# Altium integrated library ON Semi MOSFETs.IntLib: 1097 symbols (part 25 of 26)
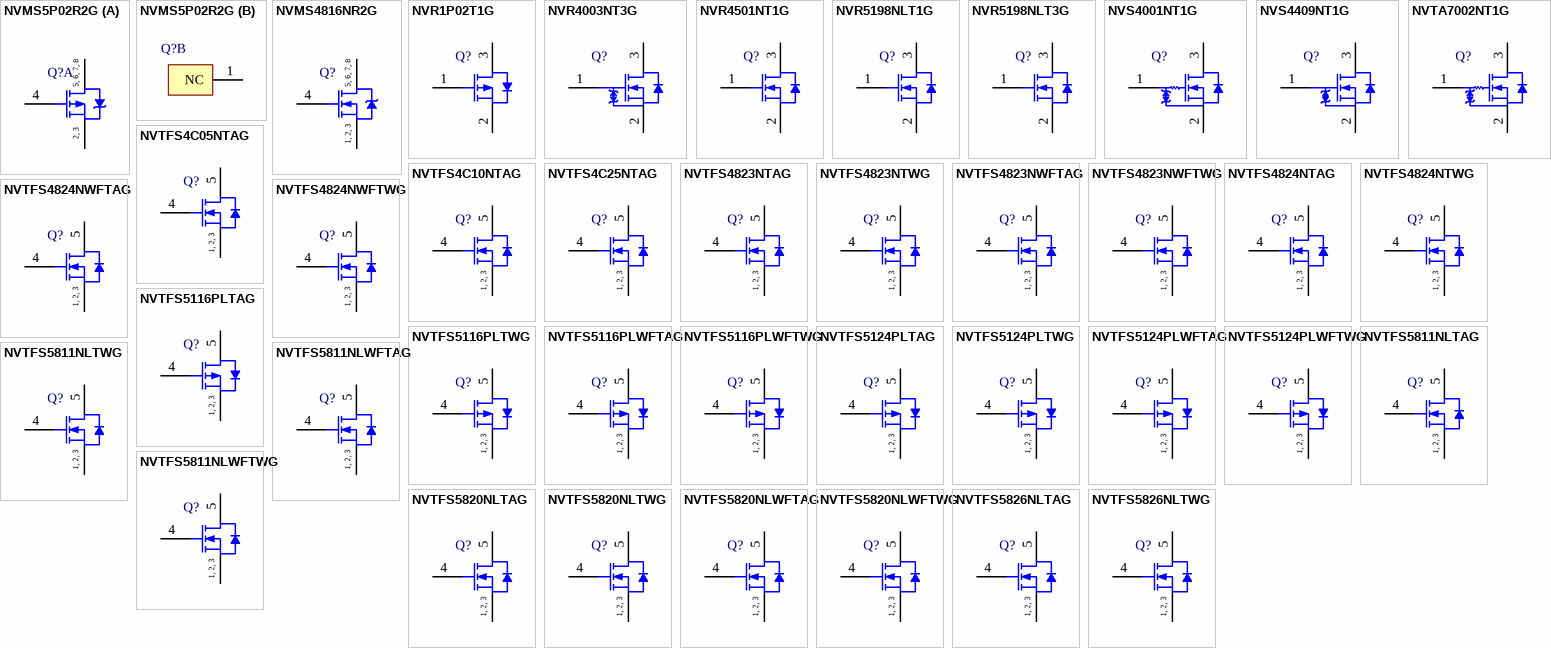
[diagram p55: symbols NVMS5P02R2G to NVTFS5826NLTWG]

## NVTFS5811NLTAG
designator Q?
Power MOSFET, 40 V, 40 A, 6.7 mOhm, Single N-Channel, 8-Pin WDFN, Pb-Free, Tape and Reel; Manufacturer: On Semiconductor; PartNumber: NVTFS5811NLTAG; Channel Polarity: N Channel; Ciss Typ (pF): 1570; Coss Typ (pF): 215; Crss Typ (pF): 157; ID Max (A): 40; Qrr Typ (nC): 17; VGS Max (V): 20; VGS(th) Max (V): 2.2; DatasheetVersion: Rev. 2; PackageVersion: Rev. D, 04/2012; PackageReference: WDFN-8-511AB; PackageDescription: 8-Pin Small Outline No-Lead, Body 3.05 x 3.05 mm, Pitch 0.65 mm; Supplier 1: Digi-Key; Supplier Part Number 1: NVTFS5811NLTAG-ND; Supplier 2: Newark; Supplier Part Number 2: 65T1526; Supplier 3: Mouser; Supplier Part Number 3: 863-NVTFS5811NLTAG; Configuration: Single; Package Type: u8FL / WDFN-8; Packing: Tape and Reel; RoHS: Pb-Free; V(BR)DSS Min (V): 40; Mounting Technology: Surface Mount; ComponentLink1Description: Manufacturer URL; ComponentLink1URL: http://www.onsemi.com/; ComponentLink2Description: Datasheet; ComponentLink2URL: http://www.onsemi.com/pub_link/Collateral/NVTFS5811NL-D.PDF; ComponentLink3Description: Package Specification; ComponentLink3URL: http://www.onsemi.com/pub_link/Collateral/511AB.PDF
footprint ONSC-WDFN-8-511AB_V (DFN, 8-Leads, Body 3.05x3.05mm, Pitch 0.65mm)
pins: 1 S, 2 S, 3 S, 4 G, 5 D
text: 1, 2, 3

## NVTFS5811NLTWG
designator Q?
Power MOSFET, 40 V, 40 A, 6.7 mOhm, Single N-Channel, 8-Pin WDFN, Pb-Free, Tape and Reel; Manufacturer: On Semiconductor; PartNumber: NVTFS5811NLTWG; Channel Polarity: N Channel; Ciss Typ (pF): 1570; Coss Typ (pF): 215; Crss Typ (pF): 157; ID Max (A): 40; Qrr Typ (nC): 17; VGS Max (V): 20; VGS(th) Max (V): 2.2; DatasheetVersion: Rev. 2; PackageVersion: Rev. D, 04/2012; PackageReference: WDFN-8-511AB; PackageDescription: 8-Pin Small Outline No-Lead, Body 3.05 x 3.05 mm, Pitch 0.65 mm; Supplier 1: Digi-Key; Supplier Part Number 1: NVTFS5811NLTWG-ND; Supplier 2: Mouser; Supplier Part Number 2: 863-NVTFS5811NLTWG; Configuration: Single; Package Type: u8FL / WDFN-8; Packing: Tape and Reel; RoHS: Pb-Free; V(BR)DSS Min (V): 40; Mounting Technology: Surface Mount; ComponentLink1Description: Manufacturer URL; ComponentLink1URL: http://www.onsemi.com/; ComponentLink2Description: Datasheet; ComponentLink2URL: http://www.onsemi.com/pub_link/Collateral/NVTFS5811NL-D.PDF; ComponentLink3Description: Package Specification; ComponentLink3URL: http://www.onsemi.com/pub_link/Collateral/511AB.PDF
footprint ONSC-WDFN-8-511AB_V (DFN, 8-Leads, Body 3.05x3.05mm, Pitch 0.65mm)
pins: 1 S, 2 S, 3 S, 4 G, 5 D
text: 1, 2, 3

## NVTFS5811NLWFTAG
designator Q?
Power MOSFET, 40 V, 40 A, 6.7 mOhm, Single N-Channel, 8-Pin WDFN, Pb-Free, Tape and Reel; Manufacturer: On Semiconductor; PartNumber: NVTFS5811NLWFTAG; Channel Polarity: N Channel; Ciss Typ (pF): 1570; Coss Typ (pF): 215; Crss Typ (pF): 157; ID Max (A): 40; Qrr Typ (nC): 17; VGS Max (V): 20; VGS(th) Max (V): 2.2; DatasheetVersion: Rev. 2; PackageVersion: Rev. D, 04/2012; PackageReference: WDFN-8-511AB; PackageDescription: 8-Pin Small Outline No-Lead, Body 3.05 x 3.05 mm, Pitch 0.65 mm; Supplier 1: Newark; Supplier Part Number 1: 11X3743; Supplier 2: Mouser; Supplier Part Number 2: 863-NVTFS5811NLWFTAG; Configuration: Single; Package Type: u8FL / WDFN-8; Packing: Tape and Reel; RoHS: Pb-Free; V(BR)DSS Min (V): 40; Mounting Technology: Surface Mount; ComponentLink1Description: Manufacturer URL; ComponentLink1URL: http://www.onsemi.com/; ComponentLink2Description: Datasheet; ComponentLink2URL: http://www.onsemi.com/pub_link/Collateral/NVTFS5811NL-D.PDF; ComponentLink3Description: Package Specification; ComponentLink3URL: http://www.onsemi.com/pub_link/Collateral/511AB.PDF
footprint ONSC-WDFN-8-511AB_V (DFN, 8-Leads, Body 3.05x3.05mm, Pitch 0.65mm)
pins: 1 S, 2 S, 3 S, 4 G, 5 D
text: 1, 2, 3

## NVTFS5811NLWFTWG
designator Q?
Power MOSFET, 40 V, 40 A, 6.7 mOhm, Single N-Channel, 8-Pin WDFN, Pb-Free, Tape and Reel; Manufacturer: On Semiconductor; PartNumber: NVTFS5811NLWFTWG; Channel Polarity: N Channel; Ciss Typ (pF): 1570; Coss Typ (pF): 215; Crss Typ (pF): 157; ID Max (A): 40; Qrr Typ (nC): 17; VGS Max (V): 20; VGS(th) Max (V): 2.2; DatasheetVersion: Rev. 2; PackageVersion: Rev. D, 04/2012; PackageReference: WDFN-8-511AB; PackageDescription: 8-Pin Small Outline No-Lead, Body 3.05 x 3.05 mm, Pitch 0.65 mm; Supplier 1: Newark; Supplier Part Number 1: 11X3744; Supplier 2: Mouser; Supplier Part Number 2: 863-NVTFS5811NLWFTWG; Configuration: Single; Package Type: u8FL / WDFN-8; Packing: Tape and Reel; RoHS: Pb-Free; V(BR)DSS Min (V): 40; Mounting Technology: Surface Mount; ComponentLink1Description: Manufacturer URL; ComponentLink1URL: http://www.onsemi.com/; ComponentLink2Description: Datasheet; ComponentLink2URL: http://www.onsemi.com/pub_link/Collateral/NVTFS5811NL-D.PDF; ComponentLink3Description: Package Specification; ComponentLink3URL: http://www.onsemi.com/pub_link/Collateral/511AB.PDF
footprint ONSC-WDFN-8-511AB_V (DFN, 8-Leads, Body 3.05x3.05mm, Pitch 0.65mm)
pins: 1 S, 2 S, 3 S, 4 G, 5 D
text: 1, 2, 3

## NVTFS5820NLTAG
designator Q?
Power MOSFET, 60 V, 11.5 mOhm, Single N-Channel, 8-Pin WDFN, Pb-Free, Tape and Reel; Manufacturer: On Semiconductor; PartNumber: NVTFS5820NLTAG; Channel Polarity: N Channel; Ciss Typ (pF): 1462; Coss Typ (pF): 150; Crss Typ (pF): 96; ID Max (A): 29; Qrr Typ (nC): 15; V(BR)DSS Min (V): 60; VGS Max (V): 20; VGS(th) Max (V): 2.3; DatasheetVersion: Rev. 4; PackageVersion: Rev. D, 04/2012; PackageReference: WDFN-8-511AB; PackageDescription: 8-Pin Small Outline No-Lead, Body 3.05 x 3.05 mm, Pitch 0.65 mm; Supplier 1: Digi-Key; Supplier Part Number 1: NVTFS5820NLTAG-ND; Supplier 2: Newark; Supplier Part Number 2: 65T1528; Supplier 3: Mouser; Supplier Part Number 3: 863-NVTFS5820NLTAG; Configuration: Single; Package Type: u8FL / WDFN-8; Packing: Tape and Reel; RoHS: Pb-Free; Mounting Technology: Surface Mount; ComponentLink1Description: Manufacturer URL; ComponentLink1URL: http://www.onsemi.com/; ComponentLink2Description: Datasheet; ComponentLink2URL: http://www.onsemi.com/pub_link/Collateral/NVTFS5820NL-D.PDF; ComponentLink3Description: Package Specification; ComponentLink3URL: http://www.onsemi.com/pub_link/Collateral/511AB.PDF
footprint ONSC-WDFN-8-511AB_V (DFN, 8-Leads, Body 3.05x3.05mm, Pitch 0.65mm)
pins: 1 S, 2 S, 3 S, 4 G, 5 D
text: 1, 2, 3

## NVTFS5820NLTWG
designator Q?
Power MOSFET, 60 V, 11.5 mOhm, Single N-Channel, 8-Pin WDFN, Pb-Free, Tape and Reel; Manufacturer: On Semiconductor; PartNumber: NVTFS5820NLTWG; Channel Polarity: N Channel; Ciss Typ (pF): 1462; Coss Typ (pF): 150; Crss Typ (pF): 96; ID Max (A): 29; Qrr Typ (nC): 15; V(BR)DSS Min (V): 60; VGS Max (V): 20; VGS(th) Max (V): 2.3; DatasheetVersion: Rev. 4; PackageVersion: Rev. D, 04/2012; PackageReference: WDFN-8-511AB; PackageDescription: 8-Pin Small Outline No-Lead, Body 3.05 x 3.05 mm, Pitch 0.65 mm; Supplier 1: Digi-Key; Supplier Part Number 1: NVTFS5820NLTWG-ND; Supplier 2: Mouser; Supplier Part Number 2: 863-NVTFS5820NLTWG; Configuration: Single; Package Type: u8FL / WDFN-8; Packing: Tape and Reel; RoHS: Pb-Free; Mounting Technology: Surface Mount; ComponentLink1Description: Manufacturer URL; ComponentLink1URL: http://www.onsemi.com/; ComponentLink2Description: Datasheet; ComponentLink2URL: http://www.onsemi.com/pub_link/Collateral/NVTFS5820NL-D.PDF; ComponentLink3Description: Package Specification; ComponentLink3URL: http://www.onsemi.com/pub_link/Collateral/511AB.PDF
footprint ONSC-WDFN-8-511AB_V (DFN, 8-Leads, Body 3.05x3.05mm, Pitch 0.65mm)
pins: 1 S, 2 S, 3 S, 4 G, 5 D
text: 1, 2, 3

## NVTFS5820NLWFTAG
designator Q?
Power MOSFET, 60 V, 11.5 mOhm, Single N-Channel, 8-Pin WDFN, Pb-Free, Tape and Reel; Manufacturer: On Semiconductor; PartNumber: NVTFS5820NLWFTAG; Channel Polarity: N Channel; Ciss Typ (pF): 1462; Coss Typ (pF): 150; Crss Typ (pF): 96; ID Max (A): 29; Qrr Typ (nC): 15; V(BR)DSS Min (V): 60; VGS Max (V): 20; VGS(th) Max (V): 2.3; DatasheetVersion: Rev. 4; PackageVersion: Rev. D, 04/2012; PackageReference: WDFN-8-511AB; PackageDescription: 8-Pin Small Outline No-Lead, Body 3.05 x 3.05 mm, Pitch 0.65 mm; Supplier 1: Newark; Supplier Part Number 1: 11X3745; Supplier 2: Mouser; Supplier Part Number 2: 863-NVTFS5820NLWFTAG; Configuration: Single; Package Type: u8FL / WDFN-8; Packing: Tape and Reel; RoHS: Pb-Free; Mounting Technology: Surface Mount; ComponentLink1Description: Manufacturer URL; ComponentLink1URL: http://www.onsemi.com/; ComponentLink2Description: Datasheet; ComponentLink2URL: http://www.onsemi.com/pub_link/Collateral/NVTFS5820NL-D.PDF; ComponentLink3Description: Package Specification; ComponentLink3URL: http://www.onsemi.com/pub_link/Collateral/511AB.PDF
footprint ONSC-WDFN-8-511AB_V (DFN, 8-Leads, Body 3.05x3.05mm, Pitch 0.65mm)
pins: 1 S, 2 S, 3 S, 4 G, 5 D
text: 1, 2, 3

## NVTFS5820NLWFTWG
designator Q?
Power MOSFET, 60 V, 11.5 mOhm, Single N-Channel, 8-Pin WDFN, Pb-Free, Tape and Reel; Manufacturer: On Semiconductor; PartNumber: NVTFS5820NLWFTWG; Channel Polarity: N Channel; Ciss Typ (pF): 1462; Coss Typ (pF): 150; Crss Typ (pF): 96; ID Max (A): 29; Qrr Typ (nC): 15; V(BR)DSS Min (V): 60; VGS Max (V): 20; VGS(th) Max (V): 2.3; DatasheetVersion: Rev. 4; PackageVersion: Rev. D, 04/2012; PackageReference: WDFN-8-511AB; PackageDescription: 8-Pin Small Outline No-Lead, Body 3.05 x 3.05 mm, Pitch 0.65 mm; Supplier 1: Newark; Supplier Part Number 1: 11X3746; Supplier 2: Mouser; Supplier Part Number 2: 863-NVTFS5820NLWFTWG; Configuration: Single; Package Type: u8FL / WDFN-8; Packing: Tape and Reel; RoHS: Pb-Free; Mounting Technology: Surface Mount; ComponentLink1Description: Manufacturer URL; ComponentLink1URL: http://www.onsemi.com/; ComponentLink2Description: Datasheet; ComponentLink2URL: http://www.onsemi.com/pub_link/Collateral/NVTFS5820NL-D.PDF; ComponentLink3Description: Package Specification; ComponentLink3URL: http://www.onsemi.com/pub_link/Collateral/511AB.PDF
footprint ONSC-WDFN-8-511AB_V (DFN, 8-Leads, Body 3.05x3.05mm, Pitch 0.65mm)
pins: 1 S, 2 S, 3 S, 4 G, 5 D
text: 1, 2, 3

## NVTFS5826NLTAG
designator Q?
Power MOSFET, 60 V, 20 A, 24 mOhm, Single N-Channel, 8-Pin WDFN, Pb-Free, Tape and Reel; Manufacturer: On Semiconductor; PartNumber: NVTFS5826NLTAG; Channel Polarity: N Channel; Ciss Typ (pF): 850; Coss Typ (pF): 85; Crss Typ (pF): 50; ID Max (A): 20; Qrr Typ (nC): 17; V(BR)DSS Min (V): 60; VGS(th) Max (V): 2.5; DatasheetVersion: Rev. 2; PackageVersion: Rev. D, 04/2012; PackageReference: WDFN-8-511AB; PackageDescription: 8-Pin Small Outline No-Lead, Body 3.05 x 3.05 mm, Pitch 0.65 mm; Supplier 1: Digi-Key; Supplier Part Number 1: NVTFS5826NLTAG-ND; Supplier 2: Newark; Supplier Part Number 2: 65T1530; Supplier 3: Mouser; Supplier Part Number 3: 863-NVTFS5826NLTAG; Configuration: Single; Package Type: u8FL / WDFN-8; Packing: Tape and Reel; RoHS: Pb-Free; VGS Max (V): 20; Mounting Technology: Surface Mount; ComponentLink1Description: Manufacturer URL; ComponentLink1URL: http://www.onsemi.com/; ComponentLink2Description: Datasheet; ComponentLink2URL: http://www.onsemi.com/pub_link/Collateral/NVTFS5826NL-D.PDF; ComponentLink3Description: Package Specification; ComponentLink3URL: http://www.onsemi.com/pub_link/Collateral/511AB.PDF
footprint ONSC-WDFN-8-511AB_V (DFN, 8-Leads, Body 3.05x3.05mm, Pitch 0.65mm)
pins: 1 S, 2 S, 3 S, 4 G, 5 D
text: 1, 2, 3

## NVTFS5826NLTWG
designator Q?
Power MOSFET, 60 V, 20 A, 24 mOhm, Single N-Channel, 8-Pin WDFN, Pb-Free, Tape and Reel; Manufacturer: On Semiconductor; PartNumber: NVTFS5826NLTWG; Channel Polarity: N Channel; Ciss Typ (pF): 850; Coss Typ (pF): 85; Crss Typ (pF): 50; ID Max (A): 20; Qrr Typ (nC): 17; V(BR)DSS Min (V): 60; VGS(th) Max (V): 2.5; DatasheetVersion: Rev. 2; PackageVersion: Rev. D, 04/2012; PackageReference: WDFN-8-511AB; PackageDescription: 8-Pin Small Outline No-Lead, Body 3.05 x 3.05 mm, Pitch 0.65 mm; Supplier 1: Digi-Key; Supplier Part Number 1: NVTFS5826NLTWG-ND; Supplier 2: Mouser; Supplier Part Number 2: 863-NVTFS5826NLTWG; Configuration: Single; Package Type: u8FL / WDFN-8; Packing: Tape and Reel; RoHS: Pb-Free; VGS Max (V): 20; Mounting Technology: Surface Mount; ComponentLink1Description: Manufacturer URL; ComponentLink1URL: http://www.onsemi.com/; ComponentLink2Description: Datasheet; ComponentLink2URL: http://www.onsemi.com/pub_link/Collateral/NVTFS5826NL-D.PDF; ComponentLink3Description: Package Specification; ComponentLink3URL: http://www.onsemi.com/pub_link/Collateral/511AB.PDF
footprint ONSC-WDFN-8-511AB_V (DFN, 8-Leads, Body 3.05x3.05mm, Pitch 0.65mm)
pins: 1 S, 2 S, 3 S, 4 G, 5 D
text: 1, 2, 3

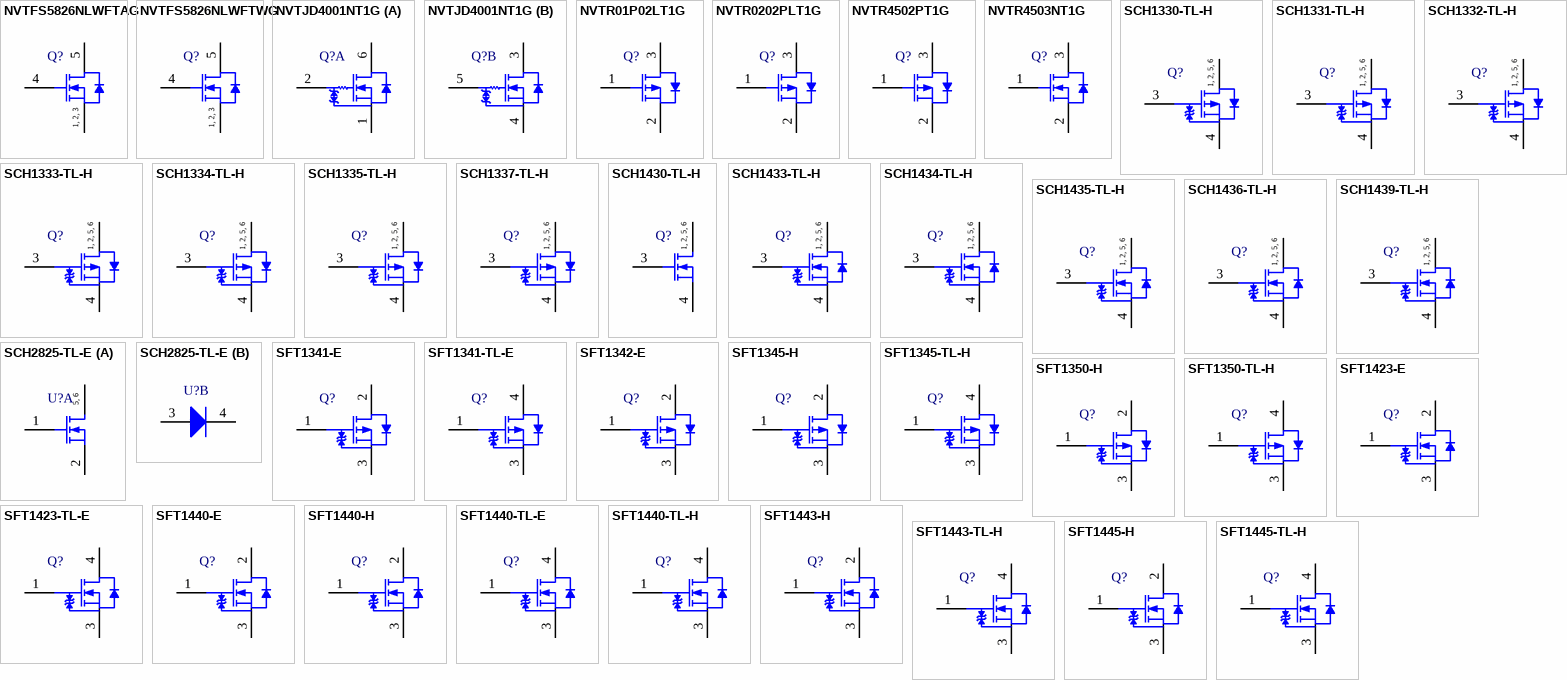
[diagram p30: symbols NVTFS5826NLWFTAG to SFT1445-TL-H]

## NVTFS5826NLWFTAG
designator Q?
Power MOSFET, 60 V, 20 A, 24 mOhm, Single N-Channel, 8-Pin WDFN, Pb-Free, Tape and Reel; Manufacturer: On Semiconductor; PartNumber: NVTFS5826NLWFTAG; Channel Polarity: N Channel; Ciss Typ (pF): 850; Coss Typ (pF): 85; Crss Typ (pF): 50; ID Max (A): 20; Qrr Typ (nC): 17; V(BR)DSS Min (V): 60; VGS(th) Max (V): 2.5; DatasheetVersion: Rev. 2; PackageVersion: Rev. D, 04/2012; PackageReference: WDFN-8-511AB; PackageDescription: 8-Pin Small Outline No-Lead, Body 3.05 x 3.05 mm, Pitch 0.65 mm; Supplier 1: Newark; Supplier Part Number 1: 11X3747; Supplier 2: Mouser; Supplier Part Number 2: 863-NVTFS5826NLWFTAG; Configuration: Single; Package Type: u8FL / WDFN-8; Packing: Tape and Reel; RoHS: Pb-Free; VGS Max (V): 20; Mounting Technology: Surface Mount; ComponentLink1Description: Manufacturer URL; ComponentLink1URL: http://www.onsemi.com/; ComponentLink2Description: Datasheet; ComponentLink2URL: http://www.onsemi.com/pub_link/Collateral/NVTFS5826NL-D.PDF; ComponentLink3Description: Package Specification; ComponentLink3URL: http://www.onsemi.com/pub_link/Collateral/511AB.PDF
footprint ONSC-WDFN-8-511AB_V (DFN, 8-Leads, Body 3.05x3.05mm, Pitch 0.65mm)
pins: 1 S, 2 S, 3 S, 4 G, 5 D
text: 1, 2, 3

## NVTFS5826NLWFTWG
designator Q?
Power MOSFET, 60 V, 20 A, 24 mOhm, Single N-Channel, 8-Pin WDFN, Pb-Free, Tape and Reel; Manufacturer: On Semiconductor; PartNumber: NVTFS5826NLWFTWG; Channel Polarity: N Channel; Ciss Typ (pF): 850; Coss Typ (pF): 85; Crss Typ (pF): 50; ID Max (A): 20; Qrr Typ (nC): 17; V(BR)DSS Min (V): 60; VGS(th) Max (V): 2.5; DatasheetVersion: Rev. 2; PackageVersion: Rev. D, 04/2012; PackageReference: WDFN-8-511AB; PackageDescription: 8-Pin Small Outline No-Lead, Body 3.05 x 3.05 mm, Pitch 0.65 mm; Supplier 1: Newark; Supplier Part Number 1: 11X3748; Supplier 2: Mouser; Supplier Part Number 2: 863-NVTFS5826NLWFTWG; Configuration: Single; Package Type: u8FL / WDFN-8; Packing: Tape and Reel; RoHS: Pb-Free; VGS Max (V): 20; Mounting Technology: Surface Mount; ComponentLink1Description: Manufacturer URL; ComponentLink1URL: http://www.onsemi.com/; ComponentLink2Description: Datasheet; ComponentLink2URL: http://www.onsemi.com/pub_link/Collateral/NVTFS5826NL-D.PDF; ComponentLink3Description: Package Specification; ComponentLink3URL: http://www.onsemi.com/pub_link/Collateral/511AB.PDF
footprint ONSC-WDFN-8-511AB_V (DFN, 8-Leads, Body 3.05x3.05mm, Pitch 0.65mm)
pins: 1 S, 2 S, 3 S, 4 G, 5 D
text: 1, 2, 3

## NVTJD4001NT1G
designator Q?
Small Signal MOSFET, 30 V, 250 mA, Dual N-Channel, 6-Pin SOT-363, Pb-Free, Tape and Reel; Manufacturer: On Semiconductor; PartNumber: NVTJD4001NT1G; Channel Polarity: N Channel; Ciss Typ (pF): 20; Coss Typ (pF): 19; Crss Typ (pF): 7.25; ID Max (A): 0.25; PD Max (W): 0.272; V(BR)DSS Min (V): 30; VGS(th) Max (V): 1.5; DatasheetVersion: Rev. 6; PackageVersion: Rev. W, 01/2006; PackageReference: SOT-363-6-419B-02_W; PackageDescription: 6-Pin Small Outline Transistor, Body 2 x 1.25 mm, Pitch 0.65 mm; Configuration: Dual; Package Type: SC-88-6 / SC-70-6 / SOT-363-6; Packing: Tape and Reel; RoHS: Pb-Free; VGS Max (V): 20; Mounting Technology: Surface Mount; ComponentLink1Description: Manufacturer URL; ComponentLink1URL: http://www.onsemi.com/; ComponentLink2Description: Datasheet; ComponentLink2URL: http://www.onsemi.com/pub_link/Collateral/NTJD4001N-D.PDF; ComponentLink3Description: Package Specification; ComponentLink3URL: http://www.onsemi.com/pub_link/Collateral/NTJD4001N-D.PDF
footprint ONSC-SOT-363-6-419B-02_W_V (SOT23, 6-Leads, Body 2x1.25mm, Pitch 0.65mm)
part A pins: 1 S1, 2 G1, 6 D1
part B pins: 3 D2, 4 S2, 5 G2

## NVTR01P02LT1G
designator Q?
Power MOSFET, -20 V, -1.3 A, P-Channel, 3-Pin SOT-23, Pb-Free, Tape and Reel; Manufacturer: On Semiconductor; PartNumber: NVTR01P02LT1G; Channel Polarity: P Channel; Ciss Typ (pF): 225; Configuration: Single; Coss Typ (pF): 130; Crss Typ (pF): 55; ID Max (A): 1.3; PD Max (W): 0.4; Qrr Typ (nC): 8.5; V(BR)DSS Min (V): 20; VGS Max (V): 12; VGS(th) Max (V): 1.25; DatasheetVersion: Rev. 13; PackageVersion: Rev. AP, 11/2009; PackageReference: SOT-23-3-318-08; PackageDescription: 3-Pin Small Outline Transistor, Body 2.92 x 1.3 mm, Pitch 0.95 mm; Package Type: SOT-23-3; Packing: Tape and Reel; RoHS: Pb-Free; Mounting Technology: Surface Mount; ComponentLink1Description: Manufacturer URL; ComponentLink1URL: http://www.onsemi.com/; ComponentLink2Description: Datasheet; ComponentLink2URL: http://www.onsemi.cn/pub_link/Collateral/NTR1P02LT1-D.PDF; ComponentLink3Description: Package Specification; ComponentLink3URL: http://www.onsemi.cn/pub_link/Collateral/318-08.PDF
footprint ONSC-SOT-23-3-318-08_V (SOT23, 3-Leads, Body 2.92x1.3mm, Pitch 0.95mm)
pins: 1 G, 2 S, 3 D

## NVTR0202PLT1G
designator Q?
Power MOSFET, -20 V, -400 mA, P-Channel, 3-Pin SOT-23, Pb-Free, Tape and Reel; Manufacturer: On Semiconductor; PartNumber: NVTR0202PLT1G; Channel Polarity: P Channel; Ciss Typ (pF): 70; Configuration: Single; Coss Typ (pF): 74; Crss Typ (pF): 26; ID Max (A): 0.4; PD Max (W): 0.225; Qrr Typ (nC): 7; V(BR)DSS Min (V): 20; VGS(th) Max (V): 2.3; DatasheetVersion: Rev. 5; PackageVersion: Rev. AP, 11/2009; PackageReference: SOT-23-3-318-08; PackageDescription: 3-Pin Small Outline Transistor, Body 2.92 x 1.3 mm, Pitch 0.95 mm; Package Type: SOT-23-3; Packing: Tape and Reel; RoHS: Pb-Free; VGS Max (V): 20; Mounting Technology: Surface Mount; ComponentLink1Description: Manufacturer URL; ComponentLink1URL: http://www.onsemi.com/; ComponentLink2Description: Datasheet; ComponentLink2URL: http://www.onsemi.cn/pub_link/Collateral/NTR0202PL-D.PDF; ComponentLink3Description: Package Specification; ComponentLink3URL: http://www.onsemi.cn/pub_link/Collateral/318-08.PDF
footprint ONSC-SOT-23-3-318-08_V (SOT23, 3-Leads, Body 2.92x1.3mm, Pitch 0.95mm)
pins: 1 G, 2 S, 3 D

## NVTR4502PT1G
designator Q?
Power MOSFET, -30 V, -1.95 A, Single, P-Channel, 3-Pin SOT-23, Pb-Free, Tape and Reel; Manufacturer: On Semiconductor; PartNumber: NVTR4502PT1G; Channel Polarity: P Channel; Ciss Typ (pF): 200; Coss Typ (pF): 80; Crss Typ (pF): 50; ID Max (A): 1.95; V(BR)DSS Min (V): 30; VGS Max (V): 20; VGS(th) Max (V): 3; DatasheetVersion: Rev. 5; PackageVersion: Rev. AP, 11/2009; PackageReference: SOT-23-3-318-08; PackageDescription: 3-Pin Small Outline Transistor, Body 2.92 x 1.3 mm, Pitch 0.95 mm; Supplier 1: Digi-Key; Supplier Part Number 1: NVTR4502PT1G-ND; Supplier 2: Newark; Supplier Part Number 2: 76T6802; Supplier 3: Mouser; Supplier Part Number 3: 863-NVTR4502PT1G; Configuration: Single; Package Type: SOT-23-3; Packing: Tape and Reel; RoHS: Pb-Free; Mounting Technology: Surface Mount; ComponentLink1Description: Manufacturer URL; ComponentLink1URL: http://www.onsemi.com/; ComponentLink2Description: Datasheet; ComponentLink2URL: http://www.onsemi.cn/pub_link/Collateral/NTR4502P-D.PDF; ComponentLink3Description: Package Specification; ComponentLink3URL: http://www.onsemi.cn/pub_link/Collateral/318-08.PDF
footprint ONSC-SOT-23-3-318-08_V (SOT23, 3-Leads, Body 2.92x1.3mm, Pitch 0.95mm)
pins: 1 G, 2 S, 3 D

## NVTR4503NT1G
designator Q?
Power MOSFET, 30 V, 2.5 A, Single N-Channel, 3-Pin SOT-23, Pb-Free, Tape and Reel; Manufacturer: On Semiconductor; PartNumber: NVTR4503NT1G; Channel Polarity: N Channel; ID Max (A): 2.5; Qrr Typ (nC): 4; V(BR)DSS Min (V): 30; VGS Max (V): 20; VGS(th) Max (V): 3; DatasheetVersion: Rev. 6; PackageVersion: Rev. AP, 11/2009; PackageReference: SOT-23-3-318-08; PackageDescription: 3-Pin Small Outline Transistor, Body 2.92 x 1.3 mm, Pitch 0.95 mm; Supplier 1: Digi-Key; Supplier Part Number 1: NVTR4503NT1GOSTR-ND; Supplier 2: Digi-Key; Supplier Part Number 2: NVTR4503NT1GOSCT-ND; Supplier 3: Digi-Key; Supplier Part Number 3: NVTR4503NT1GOSDKR-ND; Supplier 4: Newark; Supplier Part Number 4: 79R3549; Supplier 5: Mouser; Supplier Part Number 5: 863-NVTR4503NT1G; Configuration: Single; Package Type: SOT-23-3; Packing: Tape and Reel; RoHS: Pb-Free; Mounting Technology: Surface Mount; ComponentLink1Description: Manufacturer URL; ComponentLink1URL: http://www.onsemi.com/; ComponentLink2Description: Datasheet; ComponentLink2URL: http://www.onsemi.cn/pub_link/Collateral/NTR4503N-D.PDF; ComponentLink3Description: Package Specification; ComponentLink3URL: http://www.onsemi.cn/pub_link/Collateral/318-08.PDF
footprint ONSC-SOT-23-3-318-08_V (SOT23, 3-Leads, Body 2.92x1.3mm, Pitch 0.95mm)
pins: 1 G, 2 S, 3 D

## SCH1330-TL-H
designator Q?
P-Channel Power MOSFET, -20 V, -1.5 A, 241 mOhm, Single, 6-Pin SCH, Pb-Free, Tape and Reel; Manufacturer: On Semiconductor; PartNumber: SCH1330-TL-H; Channel Polarity: P Channel; Ciss Typ (pF): 120; Coss Typ (pF): 26; Crss Typ (pF): 20; ID Max (A): 1.5; PD Max (W): 1; VGS Max (V): 10; VGS(th) Max (V): 1.4; PackageReference: SCH-6; PackageDescription: 6-Pin Small Outline No-Lead, Body 1.6 x 1.5 mm, Pitch 0.5 mm; Supplier 1: Digi-Key; Supplier Part Number 1: SCH1330-TL-H-ND; Supplier 2: Mouser; Supplier Part Number 2: 863-SCH1330-TL-H; Configuration: Single; Package Type: SOT-563 / SCH6; Packing: Tape and Reel; RoHS: Pb-Free; V(BR)DSS Min (V): 20; Mounting Technology: Surface Mount; ComponentLink1Description: Manufacturer URL; ComponentLink1URL: http://www.onsemi.com/; ComponentLink2Description: Datasheet; ComponentLink2URL: http://www.onsemi.cn/pub_link/Collateral/SCH1330-D.PDF; ComponentLink3Description: Package Specification; ComponentLink3URL: http://www.onsemi.com/pub_link/Collateral/EN8043-D.PDF
footprint ONSC-SCH-6_V (SON, 6-Leads, Body 1.6x1.5mm, Pitch 0.5mm)
pins: 1 D, 2 D, 3 G, 4 S, 5 D, 6 D
text: 1, 2, 5, 6

## SCH1331-TL-H
designator Q?
P-Channel Power MOSFET, -12 V, -3 A, 84 mOhm, Single, 6-Pin SCH, Pb-Free, Tape and Reel; Manufacturer: On Semiconductor; PartNumber: SCH1331-TL-H; Channel Polarity: P Channel; Ciss Typ (pF): 405; Coss Typ (pF): 145; Crss Typ (pF): 100; ID Max (A): 3; PD Max (W): 1; V(BR)DSS Min (V): 12; VGS Max (V): 10; VGS(th) Max (V): 1.3; PackageReference: SCH-6; PackageDescription: 6-Pin Small Outline No-Lead, Body 1.6 x 1.5 mm, Pitch 0.5 mm; Supplier 1: Digi-Key; Supplier Part Number 1: SCH1331-TL-H-ND; Supplier 2: Mouser; Supplier Part Number 2: 863-SCH1331-TL-H; Configuration: Single; Package Type: SOT-563 / SCH6; Packing: Tape and Reel; RoHS: Pb-Free; Mounting Technology: Surface Mount; ComponentLink1Description: Manufacturer URL; ComponentLink1URL: http://www.onsemi.com/; ComponentLink2Description: Datasheet; ComponentLink2URL: http://www.onsemi.cn/pub_link/Collateral/SCH1331-D.PDF; ComponentLink3Description: Package Specification; ComponentLink3URL: http://www.onsemi.com/pub_link/Collateral/EN8043-D.PDF
footprint ONSC-SCH-6_V (SON, 6-Leads, Body 1.6x1.5mm, Pitch 0.5mm)
pins: 1 D, 2 D, 3 G, 4 S, 5 D, 6 D
text: 1, 2, 5, 6

## SCH1332-TL-H
designator Q?
P-Channel Power MOSFET, -20 V, -2.5 A, 95 mOhm, Single, 6-Pin SCH, Pb-Free, Tape and Reel; Manufacturer: On Semiconductor; PartNumber: SCH1332-TL-H; Channel Polarity: P Channel; Ciss Typ (pF): 375; Coss Typ (pF): 77; Crss Typ (pF): 58; ID Max (A): 2.5; PD Max (W): 1; V(BR)DSS Min (V): 20; VGS Max (V): 10; VGS(th) Max (V): 1.3; PackageReference: SCH-6; PackageDescription: 6-Pin Small Outline No-Lead, Body 1.6 x 1.5 mm, Pitch 0.5 mm; Supplier 1: Digi-Key; Supplier Part Number 1: SCH1332-TL-H-ND; Supplier 2: Mouser; Supplier Part Number 2: 863-SCH1332-TL-H; Configuration: Single; Package Type: SOT-563 / SCH6; Packing: Tape and Reel; RoHS: Pb-Free; Mounting Technology: Surface Mount; ComponentLink1Description: Manufacturer URL; ComponentLink1URL: http://www.onsemi.com/; ComponentLink2Description: Datasheet; ComponentLink2URL: http://www.onsemi.cn/pub_link/Collateral/ENA1528-D.PDF; ComponentLink3Description: Package Specification; ComponentLink3URL: http://www.onsemi.com/pub_link/Collateral/EN8043-D.PDF
footprint ONSC-SCH-6_V (SON, 6-Leads, Body 1.6x1.5mm, Pitch 0.5mm)
pins: 1 D, 2 D, 3 G, 4 S, 5 D, 6 D
text: 1, 2, 5, 6

## SCH1333-TL-H
designator Q?
P-Channel Power MOSFET, -20 V, -2 A, 130 mOhm, Single, 6-Pin SCH, Pb-Free, Tape and Reel; Manufacturer: On Semiconductor; PartNumber: SCH1333-TL-H; Channel Polarity: P Channel; Ciss Typ (pF): 250; Coss Typ (pF): 60; Crss Typ (pF): 45; ID Max (A): 2; PD Max (W): 0.8; V(BR)DSS Min (V): 20; VGS Max (V): 10; VGS(th) Max (V): 1.4; PackageReference: SCH-6; PackageDescription: 6-Pin Small Outline No-Lead, Body 1.6 x 1.5 mm, Pitch 0.5 mm; Supplier 1: Digi-Key; Supplier Part Number 1: SCH1333-TL-H-ND; Supplier 2: Newark; Supplier Part Number 2: 07W7380; Supplier 3: Mouser; Supplier Part Number 3: 863-SCH1333-TL-H; Configuration: Single; Package Type: SOT-563 / SCH6; Packing: Tape and Reel; RoHS: Pb-Free; Mounting Technology: Surface Mount; ComponentLink1Description: Manufacturer URL; ComponentLink1URL: http://www.onsemi.com/; ComponentLink2Description: Datasheet; ComponentLink2URL: http://www.onsemi.com/pub_link/Collateral/ENA1531-D.PDF; ComponentLink3Description: Package Specification; ComponentLink3URL: http://www.onsemi.com/pub_link/Collateral/EN8043-D.PDF
footprint ONSC-SCH-6_V (SON, 6-Leads, Body 1.6x1.5mm, Pitch 0.5mm)
pins: 1 D, 2 D, 3 G, 4 S, 5 D, 6 D
text: 1, 2, 5, 6

## SCH1334-TL-H
designator Q?
P-Channel Power MOSFET, -12 V, -1.6 A, 215 mOhm, Single, 6-Pin SCH, Pb-Free, Tape and Reel; Manufacturer: On Semiconductor; PartNumber: SCH1334-TL-H; Channel Polarity: P Channel; Ciss Typ (pF): 120; Coss Typ (pF): 46; Crss Typ (pF): 36; ID Max (A): 1.6; PD Max (W): 0.8; V(BR)DSS Min (V): 12; VGS Max (V): 10; VGS(th) Max (V): 1.3; PackageReference: SCH-6; PackageDescription: 6-Pin Small Outline No-Lead, Body 1.6 x 1.5 mm, Pitch 0.5 mm; Supplier 1: Digi-Key; Supplier Part Number 1: SCH1334-TL-H-ND; Supplier 2: Mouser; Supplier Part Number 2: 863-SCH1334-TL-H; Configuration: Single; Package Type: SOT-563 / SCH6; Packing: Tape and Reel; RoHS: Pb-Free; Mounting Technology: Surface Mount; ComponentLink1Description: Manufacturer URL; ComponentLink1URL: http://www.onsemi.com/; ComponentLink2Description: Datasheet; ComponentLink2URL: http://www.onsemi.cn/pub_link/Collateral/ENA1656-D.PDF; ComponentLink3Description: Package Specification; ComponentLink3URL: http://www.onsemi.com/pub_link/Collateral/EN8043-D.PDF
footprint ONSC-SCH-6_V (SON, 6-Leads, Body 1.6x1.5mm, Pitch 0.5mm)
pins: 1 D, 2 D, 3 G, 4 S, 5 D, 6 D
text: 1, 2, 5, 6

## SCH1335-TL-H
designator Q?
P-Channel Power MOSFET, -12 V, -2.5 A, 112 mOhm, Single, 6-Pin SCH, Pb-Free, Tape and Reel; Manufacturer: On Semiconductor; PartNumber: SCH1335-TL-H; Channel Polarity: P Channel; Ciss Typ (pF): 270; Coss Typ (pF): 90; Crss Typ (pF): 72; ID Max (A): 2.5; PD Max (W): 0.8; V(BR)DSS Min (V): 12; VGS Max (V): 10; VGS(th) Max (V): 1.3; PackageReference: SCH-6; PackageDescription: 6-Pin Small Outline No-Lead, Body 1.6 x 1.5 mm, Pitch 0.5 mm; Supplier 1: Digi-Key; Supplier Part Number 1: SCH1335-TL-H-ND; Supplier 2: Mouser; Supplier Part Number 2: 863-SCH1335-TL-H; Configuration: Single; Package Type: SOT-563 / SCH6; Packing: Tape and Reel; RoHS: Pb-Free; Mounting Technology: Surface Mount; ComponentLink1Description: Manufacturer URL; ComponentLink1URL: http://www.onsemi.com/; ComponentLink2Description: Datasheet; ComponentLink2URL: http://www.onsemi.cn/pub_link/Collateral/ENA1939-D.PDF; ComponentLink3Description: Package Specification; ComponentLink3URL: http://www.onsemi.com/pub_link/Collateral/EN8043-D.PDF
footprint ONSC-SCH-6_V (SON, 6-Leads, Body 1.6x1.5mm, Pitch 0.5mm)
pins: 1 D, 2 D, 3 G, 4 S, 5 D, 6 D
text: 1, 2, 5, 6

## SCH1337-TL-H
designator Q?
P-Channel Power MOSFET, -30 V, -2 A, 150 mOhm, Single, 6-Pin SCH, Pb-Free, Tape and Reel; Manufacturer: On Semiconductor; PartNumber: SCH1337-TL-H; Channel Polarity: P Channel; Ciss Typ (pF): 172; Coss Typ (pF): 51; Crss Typ (pF): 36; ID Max (A): 2; PD Max (W): 0.8; V(BR)DSS Min (V): 30; VGS Max (V): 20; VGS(th) Max (V): 2.6; PackageReference: SCH-6; PackageDescription: 6-Pin Small Outline No-Lead, Body 1.6 x 1.5 mm, Pitch 0.5 mm; Supplier 1: Digi-Key; Supplier Part Number 1: SCH1337-TL-H-ND; Supplier 2: Mouser; Supplier Part Number 2: 863-SCH1337-TL-H; Configuration: Single; Package Type: SOT-563 / SCH6; Packing: Tape and Reel; RoHS: Pb-Free; Mounting Technology: Surface Mount; ComponentLink1Description: Manufacturer URL; ComponentLink1URL: http://www.onsemi.com/; ComponentLink2Description: Datasheet; ComponentLink2URL: http://www.onsemi.cn/pub_link/Collateral/ENA1867-D.PDF; ComponentLink3Description: Package Specification; ComponentLink3URL: http://www.onsemi.com/pub_link/Collateral/EN8043-D.PDF
footprint ONSC-SCH-6_V (SON, 6-Leads, Body 1.6x1.5mm, Pitch 0.5mm)
pins: 1 D, 2 D, 3 G, 4 S, 5 D, 6 D
text: 1, 2, 5, 6

## SCH1430-TL-H
designator Q?
N-Channel Power MOSFET, 20 V, 2 A, 125 mOhm, Single, 6-Pin SCH, Pb-Free, Tape and Reel; Manufacturer: On Semiconductor; PartNumber: SCH1430-TL-H; Channel Polarity: N Channel; Ciss Typ (pF): 128; Coss Typ (pF): 28; Crss Typ (pF): 21; ID Max (A): 2; PD Max (W): 0.8; V(BR)DSS Min (V): 20; VGS Max (V): 12; VGS(th) Max (V): 1.3; PackageReference: SCH-6; PackageDescription: 6-Pin Small Outline No-Lead, Body 1.6 x 1.5 mm, Pitch 0.5 mm; Supplier 1: Digi-Key; Supplier Part Number 1: SCH1430-TL-H-ND; Supplier 2: Mouser; Supplier Part Number 2: 863-SCH1430-TL-H; Configuration: Single; Package Type: SOT-563 / SCH6; Packing: Tape and Reel; RoHS: Pb-Free; Mounting Technology: Surface Mount; ComponentLink1Description: Manufacturer URL; ComponentLink1URL: http://www.onsemi.com/; ComponentLink2Description: Datasheet; ComponentLink2URL: http://www.onsemi.cn/pub_link/Collateral/ENA1949-D.PDF; ComponentLink3Description: Package Specification; ComponentLink3URL: http://www.onsemi.com/pub_link/Collateral/EN8043-D.PDF
footprint ONSC-SCH-6_V (SON, 6-Leads, Body 1.6x1.5mm, Pitch 0.5mm)
pins: 1 D, 2 D, 3 G, 4 S, 5 D, 6 D
text: 1, 2, 5, 6

## SCH1433-TL-H
designator Q?
N-Channel Power MOSFET, 20 V, 3.5 A, 64 mOhm, Single, 6-Pin SCH, Pb-Free, Tape and Reel; Manufacturer: On Semiconductor; PartNumber: SCH1433-TL-H; Channel Polarity: N Channel; Ciss Typ (pF): 260; Coss Typ (pF): 65; Crss Typ (pF): 50; ID Max (A): 3.5; PD Max (W): 0.8; V(BR)DSS Min (V): 20; VGS Max (V): 10; VGS(th) Max (V): 1.3; PackageReference: SCH-6; PackageDescription: 6-Pin Small Outline No-Lead, Body 1.6 x 1.5 mm, Pitch 0.5 mm; Supplier 1: Digi-Key; Supplier Part Number 1: SCH1433-TL-H-ND; Supplier 2: Mouser; Supplier Part Number 2: 863-SCH1433-TL-H; Configuration: Single; Package Type: SOT-563 / SCH6; Packing: Tape and Reel; RoHS: Pb-Free; Mounting Technology: Surface Mount; ComponentLink1Description: Manufacturer URL; ComponentLink1URL: http://www.onsemi.com/; ComponentLink2Description: Datasheet; ComponentLink2URL: http://www.onsemi.cn/pub_link/Collateral/SCH1433-D.PDF; ComponentLink3Description: Package Specification; ComponentLink3URL: http://www.onsemi.com/pub_link/Collateral/EN8043-D.PDF
footprint ONSC-SCH-6_V (SON, 6-Leads, Body 1.6x1.5mm, Pitch 0.5mm)
pins: 1 D, 2 D, 3 G, 4 S, 5 D, 6 D
text: 1, 2, 5, 6

## SCH1434-TL-H
designator Q?
N-Channel Power MOSFET, 30 V, 2 A, 165 mOhm, Single, 6-Pin SCH, Pb-Free, Tape and Reel; Manufacturer: On Semiconductor; PartNumber: SCH1434-TL-H; Channel Polarity: N Channel; Ciss Typ (pF): 130; Coss Typ (pF): 21; Crss Typ (pF): 14; ID Max (A): 2; PD Max (W): 0.8; V(BR)DSS Min (V): 30; VGS Max (V): 12; VGS(th) Max (V): 1.3; PackageReference: SCH-6; PackageDescription: 6-Pin Small Outline No-Lead, Body 1.6 x 1.5 mm, Pitch 0.5 mm; Supplier 1: Digi-Key; Supplier Part Number 1: SCH1434-TL-H-ND; Supplier 2: Mouser; Supplier Part Number 2: 863-SCH1434-TL-H; Configuration: Single; Package Type: SOT-563 / SCH6; Packing: Tape and Reel; RoHS: Pb-Free; Mounting Technology: Surface Mount; ComponentLink1Description: Manufacturer URL; ComponentLink1URL: http://www.onsemi.com/; ComponentLink2Description: Datasheet; ComponentLink2URL: http://www.onsemi.cn/pub_link/Collateral/ENA1891-D.PDF; ComponentLink3Description: Package Specification; ComponentLink3URL: http://www.onsemi.com/pub_link/Collateral/EN8043-D.PDF
footprint ONSC-SCH-6_V (SON, 6-Leads, Body 1.6x1.5mm, Pitch 0.5mm)
pins: 1 D, 2 D, 3 G, 4 S, 5 D, 6 D
text: 1, 2, 5, 6

## SCH1435-TL-H
designator Q?
N-Channel Power MOSFET, 30 V, 3 A, 89 mOhm, Single, 6-Pin SCH, Pb-Free, Tape and Reel; Manufacturer: On Semiconductor; PartNumber: SCH1435-TL-H; Channel Polarity: N Channel; Ciss Typ (pF): 265; Coss Typ (pF): 35; Crss Typ (pF): 28; ID Max (A): 3; PD Max (W): 0.8; V(BR)DSS Min (V): 30; VGS Max (V): 12; VGS(th) Max (V): 1.3; PackageReference: SCH-6; PackageDescription: 6-Pin Small Outline No-Lead, Body 1.6 x 1.5 mm, Pitch 0.5 mm; Supplier 1: Digi-Key; Supplier Part Number 1: SCH1435-TL-H-ND; Supplier 2: Mouser; Supplier Part Number 2: 863-SCH1435-TL-H; Configuration: Single; Package Type: SOT-563 / SCH6; Packing: Tape and Reel; RoHS: Pb-Free; Mounting Technology: Surface Mount; ComponentLink1Description: Manufacturer URL; ComponentLink1URL: http://www.onsemi.com/; ComponentLink2Description: Datasheet; ComponentLink2URL: http://www.onsemi.cn/pub_link/Collateral/SCH1435-D.PDF; ComponentLink3Description: Package Specification; ComponentLink3URL: http://www.onsemi.com/pub_link/Collateral/EN8043-D.PDF
footprint ONSC-SCH-6_V (SON, 6-Leads, Body 1.6x1.5mm, Pitch 0.5mm)
pins: 1 D, 2 D, 3 G, 4 S, 5 D, 6 D
text: 1, 2, 5, 6

## SCH1436-TL-H
designator Q?
N-Channel Power MOSFET, 30 V, 1.8 A, 180 mOhm, Single, 6-Pin SCH, Pb-Free, Tape and Reel; Manufacturer: On Semiconductor; PartNumber: SCH1436-TL-H; Channel Polarity: N Channel; Ciss Typ (pF): 88; Coss Typ (pF): 19; Crss Typ (pF): 11; ID Max (A): 1.8; PD Max (W): 0.8; V(BR)DSS Min (V): 30; VGS Max (V): 20; VGS(th) Max (V): 2.6; PackageReference: SCH-6; PackageDescription: 6-Pin Small Outline No-Lead, Body 1.6 x 1.5 mm, Pitch 0.5 mm; Supplier 1: Digi-Key; Supplier Part Number 1: SCH1436-TL-H-ND; Supplier 2: Mouser; Supplier Part Number 2: 863-SCH1436-TL-H; Configuration: Single; Package Type: SOT-563 / SCH6; Packing: Tape and Reel; RoHS: Pb-Free; Mounting Technology: Surface Mount; ComponentLink1Description: Manufacturer URL; ComponentLink1URL: http://www.onsemi.com/; ComponentLink2Description: Datasheet; ComponentLink2URL: http://www.onsemi.cn/pub_link/Collateral/ENA1854-D.PDF; ComponentLink3Description: Package Specification; ComponentLink3URL: http://www.onsemi.com/pub_link/Collateral/EN8043-D.PDF
footprint ONSC-SCH-6_V (SON, 6-Leads, Body 1.6x1.5mm, Pitch 0.5mm)
pins: 1 D, 2 D, 3 G, 4 S, 5 D, 6 D
text: 1, 2, 5, 6

## SCH1439-TL-H
designator Q?
N-Channel Power MOSFET, 30 V, 3.5 A, 72 mOhm, Single, 6-Pin SCH, Pb-Free, Tape and Reel; Manufacturer: On Semiconductor; PartNumber: SCH1439-TL-H; Channel Polarity: N Channel; Ciss Typ (pF): 280; Coss Typ (pF): 60; Crss Typ (pF): 30; ID Max (A): 3.5; PD Max (W): 1; VGS Max (V): 20; VGS(th) Max (V): 2.6; PackageReference: SCH-6; PackageDescription: 6-Pin Small Outline No-Lead, Body 1.6 x 1.5 mm, Pitch 0.5 mm; Supplier 1: Digi-Key; Supplier Part Number 1: SCH1439-TL-H-ND; Supplier 2: Mouser; Supplier Part Number 2: 863-SCH1439-TL-H; Configuration: Single; Package Type: SOT-563 / SCH6; Packing: Tape and Reel; RoHS: Pb-Free; V(BR)DSS Min (V): 30; Mounting Technology: Surface Mount; ComponentLink1Description: Manufacturer URL; ComponentLink1URL: http://www.onsemi.com/; ComponentLink2Description: Datasheet; ComponentLink2URL: http://www.onsemi.cn/pub_link/Collateral/ENA1861-D.PDF; ComponentLink3Description: Package Specification; ComponentLink3URL: http://www.onsemi.com/pub_link/Collateral/EN8043-D.PDF
footprint ONSC-SCH-6_V (SON, 6-Leads, Body 1.6x1.5mm, Pitch 0.5mm)
pins: 1 D, 2 D, 3 G, 4 S, 5 D, 6 D
text: 1, 2, 5, 6

## SCH2825-TL-E
designator U?
N-Channel Power MOSFET, 30 V, 1.6 A, 180 mOhm, 6-Pin SCH, Pb-Free, Tape and Reel; Manufacturer: On Semiconductor; PartNumber: SCH2825-TL-E; Channel Polarity: N Channel; Ciss Typ (pF): 88; Configuration: with Schottky Diode; Coss Typ (pF): 19; Crss Typ (pF): 11; ID Max (A): 1.6; PD Max (W): 0.6; V(BR)DSS Min (V): 30; VGS Max (V): 20; VGS(th) Max (V): 2.6; PackageReference: SCH-6; PackageDescription: 6-Pin Small Outline No-Lead, Body 1.6 x 1.5 mm, Pitch 0.5 mm; Supplier 1: Digi-Key; Supplier Part Number 1: 869-1197-2-ND; Supplier 2: Digi-Key; Supplier Part Number 2: 869-1197-1-ND; Supplier 3: Digi-Key; Supplier Part Number 3: 869-1197-6-ND; Supplier 4: Mouser; Supplier Part Number 4: 863-SCH2825-TL-E; Package Type: SOT-563 / SCH6; Packing: Tape and Reel; RoHS: Pb-Free; Mounting Technology: Surface Mount; ComponentLink1Description: Manufacturer URL; ComponentLink1URL: http://www.onsemi.com/; ComponentLink2Description: Datasheet; ComponentLink2URL: http://www.onsemi.cn/pub_link/Collateral/SCH2825.PDF; ComponentLink3Description: Package Specification; ComponentLink3URL: http://www.onsemi.com/pub_link/Collateral/EN8043-D.PDF
footprint ONSC-SCH-6_V (SON, 6-Leads, Body 1.6x1.5mm, Pitch 0.5mm)
part A pins: 1 G, 2 S, 5 D, 6 D
part B pins: 3 A, 4 K
part A text: 5, 6

## SFT1341-E
designator Q?
P-Channel Power MOSFET, -40 V, -10 A, 112 mOhm, Single, 3-Pin IPAK, Pb-Free, Bulk Bag; Manufacturer: On Semiconductor; PartNumber: SFT1341-E; Channel Polarity: P Channel; Ciss Typ (pF): 650; Coss Typ (pF): 65; Crss Typ (pF): 50; ID Max (A): 10; V(BR)DSS Min (V): 40; VGS(th) Max (V): 1.4; PackageVersion: Rev. O, 01/2012; PackageReference: IPAK-3-369AJ; PackageDescription: 3-Pin Flange Mount, Vertical Straight Lead, Body 6.5 x 5.5 mm, Pitch 2.3 mm; Supplier 1: Digi-Key; Supplier Part Number 1: SFT1341-E-ND; Supplier 2: Mouser; Supplier Part Number 2: 863-SFT1341-E; Configuration: Single; Package Type: DPAK / TP-FA; Packing: Bulk Bag; RoHS: Pb-Free; VGS Max (V): 10; Mounting Technology: Through Hole; ComponentLink1Description: Manufacturer URL; ComponentLink1URL: http://www.onsemi.com/; ComponentLink2Description: Datasheet; ComponentLink2URL: http://www.onsemi.com/pub_link/Collateral/SFT1341-D.PDF; ComponentLink3Description: Package Specification; ComponentLink3URL: http://www.onsemi.cn/pub_link/Collateral/369AJ.PDF
footprint ONSC-IPAK-3-369AJ (FM, 3-Leads, Body 6.7x2.5mm, Pitch 2.3mm)
pins: 1 G, 2 D, 3 S

## SFT1341-TL-E
designator Q?
P-Channel Power MOSFET, -40 V, -10 A, 112 mOhm, Single, 3-Pin DPAK, Pb-Free, Tape and Reel; Manufacturer: On Semiconductor; PartNumber: SFT1341-TL-E; Channel Polarity: P Channel; Ciss Typ (pF): 650; Coss Typ (pF): 65; Crss Typ (pF): 50; ID Max (A): 10; V(BR)DSS Min (V): 40; VGS(th) Max (V): 1.4; PackageReference: DPAK-3; PackageDescription: 3-Pin Flange Mount, Body 6.5 x 5.5 mm, Pitch 2.3 mm; Supplier 1: Digi-Key; Supplier Part Number 1: SFT1341-TL-E-ND; Supplier 2: Mouser; Supplier Part Number 2: 863-SFT1341-TL-E; Configuration: Single; Package Type: DPAK / TP-FA; Packing: Tape and Reel; RoHS: Pb-Free; VGS Max (V): 10; Mounting Technology: Surface Mount; ComponentLink1Description: Manufacturer URL; ComponentLink1URL: http://www.onsemi.com/; ComponentLink2Description: Datasheet; ComponentLink2URL: http://www.onsemi.com/pub_link/Collateral/SFT1341-D.PDF; ComponentLink3Description: Package Specification; ComponentLink3URL: http://www.onsemi.com/pub_link/Collateral/2SB1204-D.PDF
footprint ONSC-DPAK-3_V (DPAK, 3-Leads, Body 6.5x5.5mm, Pitch 2.3mm)
pins: 1 G, 3 S, 4 D

## SFT1342-E
designator Q?
P-Channel Power MOSFET, -60 V, -12 A, 62 mOhm, Single, 3-Pin IPAK, Pb-Free, Bulk Bag; Manufacturer: On Semiconductor; PartNumber: SFT1342-E; Channel Polarity: P Channel; Ciss Typ (pF): 1150; Coss Typ (pF): 115; Crss Typ (pF): 95; ID Max (A): 12; V(BR)DSS Min (V): 60; VGS Max (V): 20; VGS(th) Max (V): 2.6; PackageVersion: Rev. O, 01/2012; PackageReference: IPAK-3-369AJ; PackageDescription: 3-Pin Flange Mount, Vertical Straight Lead, Body 6.5 x 5.5 mm, Pitch 2.3 mm; Supplier 1: Digi-Key; Supplier Part Number 1: SFT1342-E-ND; Supplier 2: Mouser; Supplier Part Number 2: 863-SFT1342-E; Configuration: Single; Package Type: DPAK / TP-FA; Packing: Bulk Bag; RoHS: Pb-Free; Mounting Technology: Through Hole; ComponentLink1Description: Manufacturer URL; ComponentLink1URL: http://www.onsemi.com/; ComponentLink2Description: Datasheet; ComponentLink2URL: http://www.onsemi.com/pub_link/Collateral/SFT1342-D.PDF; ComponentLink3Description: Package Specification; ComponentLink3URL: http://www.onsemi.cn/pub_link/Collateral/369AJ.PDF
footprint ONSC-IPAK-3-369AJ (FM, 3-Leads, Body 6.7x2.5mm, Pitch 2.3mm)
pins: 1 G, 2 D, 3 S

## SFT1345-H
designator Q?
P-Channel Power MOSFET, -100 V, -11 A, 275 mOhm, Single, 3-Pin IPAK, Pb-Free, Bulk Bag; Manufacturer: On Semiconductor; PartNumber: SFT1345-H; Channel Polarity: P Channel; Ciss Typ (pF): 1020; Coss Typ (pF): 72; Crss Typ (pF): 43; ID Max (A): 11; V(BR)DSS Min (V): 100; VGS Max (V): 20; VGS(th) Max (V): 2.6; PackageVersion: Rev. O, 01/2012; PackageReference: IPAK-3-369AJ; PackageDescription: 3-Pin Flange Mount, Vertical Straight Lead, Body 6.5 x 5.5 mm, Pitch 2.3 mm; Supplier 1: Digi-Key; Supplier Part Number 1: SFT1345-H-ND; Supplier 2: Newark; Supplier Part Number 2: 07W7400; Supplier 3: Mouser; Supplier Part Number 3: 863-SFT1345-H; Configuration: Single; Package Type: DPAK / TP-FA; Packing: Bulk Bag; RoHS: Pb-Free; Mounting Technology: Through Hole; ComponentLink1Description: Manufacturer URL; ComponentLink1URL: http://www.onsemi.com/; ComponentLink2Description: Datasheet; ComponentLink2URL: http://www.onsemi.com/pub_link/Collateral/EN8987-D.PDF; ComponentLink3Description: Package Specification; ComponentLink3URL: http://www.onsemi.cn/pub_link/Collateral/369AJ.PDF
footprint ONSC-IPAK-3-369AJ (FM, 3-Leads, Body 6.7x2.5mm, Pitch 2.3mm)
pins: 1 G, 2 D, 3 S

## SFT1345-TL-H
designator Q?
P-Channel Power MOSFET, -100 V, -11 A, 275 mOhm, Single, 3-Pin TP-FA, Pb-Free, Tape and Reel; Manufacturer: On Semiconductor; PartNumber: SFT1345-TL-H; Channel Polarity: P Channel; Ciss Typ (pF): 1020; Coss Typ (pF): 72; Crss Typ (pF): 43; ID Max (A): 11; V(BR)DSS Min (V): 100; VGS Max (V): 20; VGS(th) Max (V): 2.6; PackageVersion: Rev. O, 01/2012; PackageReference: TP-FA-3-369AH; PackageDescription: 3-Pin Flange Mount, Body 6.5 x 5.5 mm, Pitch 2.3 mm; Supplier 1: Digi-Key; Supplier Part Number 1: SFT1345-TL-H-ND; Supplier 2: Newark; Supplier Part Number 2: 65T1627; Supplier 3: Mouser; Supplier Part Number 3: 863-SFT1345-TL-H; Configuration: Single; Package Type: DPAK / TP-FA; Packing: Tape and Reel; RoHS: Pb-Free; Mounting Technology: Surface Mount; ComponentLink1Description: Manufacturer URL; ComponentLink1URL: http://www.onsemi.com/; ComponentLink2Description: Datasheet; ComponentLink2URL: http://www.onsemi.com/pub_link/Collateral/EN8987-D.PDF; ComponentLink3Description: Package Specification; ComponentLink3URL: http://www.onsemi.com/pub_link/Collateral/369AH.PDF
footprint ONSC-TP-FA-3-369AH_V (DPAK, 3-Leads, Body 6.5x5.5mm, Pitch 2.3mm)
pins: 1 G, 3 S, 4 D

## SFT1350-H
designator Q?
P-Channel Power MOSFET, -40 V, -19 A, 59 mOhm, Single, 3-Pin IPAK, Pb-Free, Bulk Bag; Manufacturer: On Semiconductor; PartNumber: SFT1350-H; Channel Polarity: P Channel; Ciss Typ (pF): 590; Coss Typ (pF): 85; Crss Typ (pF): 61; ID Max (A): 19; V(BR)DSS Min (V): 40; VGS Max (V): 20; VGS(th) Max (V): 2.6; PackageVersion: Rev. O, 01/2012; PackageReference: IPAK-3-369AJ; PackageDescription: 3-Pin Flange Mount, Vertical Straight Lead, Body 6.5 x 5.5 mm, Pitch 2.3 mm; Supplier 1: Digi-Key; Supplier Part Number 1: SFT1350-H-ND; Supplier 2: Newark; Supplier Part Number 2: 07W7401; Supplier 3: Mouser; Supplier Part Number 3: 863-SFT1350-H; Configuration: Single; Package Type: DPAK / TP-FA; Packing: Bulk Bag; RoHS: Pb-Free; Mounting Technology: Through Hole; ComponentLink1Description: Manufacturer URL; ComponentLink1URL: http://www.onsemi.com/; ComponentLink2Description: Datasheet; ComponentLink2URL: http://www.onsemi.com/pub_link/Collateral/SFT1350-D.PDF; ComponentLink3Description: Package Specification; ComponentLink3URL: http://www.onsemi.cn/pub_link/Collateral/369AJ.PDF
footprint ONSC-IPAK-3-369AJ (FM, 3-Leads, Body 6.7x2.5mm, Pitch 2.3mm)
pins: 1 G, 2 D, 3 S

## SFT1350-TL-H
designator Q?
P-Channel Power MOSFET, -40 V, -19 A, 59 mOhm, Single, 3-Pin DPAK, Pb-Free, Tape and Reel; Manufacturer: On Semiconductor; PartNumber: SFT1350-TL-H; Channel Polarity: P Channel; Ciss Typ (pF): 590; Coss Typ (pF): 85; Crss Typ (pF): 61; ID Max (A): 19; V(BR)DSS Min (V): 40; VGS Max (V): 20; VGS(th) Max (V): 2.6; PackageReference: DPAK-3; PackageDescription: 3-Pin Flange Mount, Body 6.5 x 5.5 mm, Pitch 2.3 mm; Supplier 1: Digi-Key; Supplier Part Number 1: SFT1350-TL-H-ND; Supplier 2: Mouser; Supplier Part Number 2: 863-SFT1350-TL-H; Configuration: Single; Package Type: DPAK / TP-FA; Packing: Tape and Reel; RoHS: Pb-Free; Mounting Technology: Surface Mount; ComponentLink1Description: Manufacturer URL; ComponentLink1URL: http://www.onsemi.com/; ComponentLink2Description: Datasheet; ComponentLink2URL: http://www.onsemi.com/pub_link/Collateral/SFT1350-D.PDF; ComponentLink3Description: Package Specification; ComponentLink3URL: http://www.onsemi.com/pub_link/Collateral/2SB1204-D.PDF
footprint ONSC-DPAK-3_V (DPAK, 3-Leads, Body 6.5x5.5mm, Pitch 2.3mm)
pins: 1 G, 3 S, 4 D

## SFT1423-E
designator Q?
N-Channel Power MOSFET, 500 V, 2 A, 4.9 Ohm, Single, 3-Pin IPAK, Pb-Free, Bulk Bag; Manufacturer: On Semiconductor; PartNumber: SFT1423-E; Channel Polarity: N Channel; Ciss Typ (pF): 175; Coss Typ (pF): 32; Crss Typ (pF): 6; ID Max (A): 2; V(BR)DSS Min (V): 500; VGS Max (V): 20; VGS(th) Max (V): 2.6; PackageVersion: Rev. O, 01/2012; PackageReference: IPAK-3-369AJ; PackageDescription: 3-Pin Flange Mount, Vertical Straight Lead, Body 6.5 x 5.5 mm, Pitch 2.3 mm; Supplier 1: Digi-Key; Supplier Part Number 1: SFT1423-E-ND; Supplier 2: Mouser; Supplier Part Number 2: 863-SFT1423-E; Configuration: Single; Package Type: DPAK / TP-FA; Packing: Bulk Bag; RoHS: Pb-Free; Mounting Technology: Through Hole; ComponentLink1Description: Manufacturer URL; ComponentLink1URL: http://www.onsemi.com/; ComponentLink2Description: Datasheet; ComponentLink2URL: http://www.onsemi.cn/pub_link/Collateral/ENA1509.PDF; ComponentLink3Description: Package Specification; ComponentLink3URL: http://www.onsemi.cn/pub_link/Collateral/369AJ.PDF
footprint ONSC-IPAK-3-369AJ (FM, 3-Leads, Body 6.7x2.5mm, Pitch 2.3mm)
pins: 1 G, 2 D, 3 S

## SFT1423-TL-E
designator Q?
N-Channel Power MOSFET, 500 V, 2 A, 4.9 Ohm, Single, 3-Pin TP-FA, Pb-Free, Tape and Reel; Manufacturer: On Semiconductor; PartNumber: SFT1423-TL-E; Channel Polarity: N Channel; Ciss Typ (pF): 175; Coss Typ (pF): 32; Crss Typ (pF): 6; ID Max (A): 2; V(BR)DSS Min (V): 500; VGS Max (V): 20; VGS(th) Max (V): 2.6; PackageVersion: Rev. O, 01/2012; PackageReference: TP-FA-3-369AH; PackageDescription: 3-Pin Flange Mount, Body 6.5 x 5.5 mm, Pitch 2.3 mm; Supplier 1: Digi-Key; Supplier Part Number 1: SFT1423-TL-E-ND; Supplier 2: Mouser; Supplier Part Number 2: 863-SFT1423-TL-E; Configuration: Single; Package Type: DPAK / TP-FA; Packing: Tape and Reel; RoHS: Pb-Free; Mounting Technology: Surface Mount; ComponentLink1Description: Manufacturer URL; ComponentLink1URL: http://www.onsemi.com/; ComponentLink2Description: Datasheet; ComponentLink2URL: http://www.onsemi.cn/pub_link/Collateral/ENA1509.PDF; ComponentLink3Description: Package Specification; ComponentLink3URL: http://www.onsemi.com/pub_link/Collateral/369AH.PDF
footprint ONSC-TP-FA-3-369AH_V (DPAK, 3-Leads, Body 6.5x5.5mm, Pitch 2.3mm)
pins: 1 G, 3 S, 4 D

## SFT1440-E
designator Q?
N-Channel Power MOSFET, 600 V, 1.5 A, 8.1 Ohm, Single, 3-Pin IPAK, Pb-Free, Bulk Bag; Manufacturer: On Semiconductor; PartNumber: SFT1440-E; Channel Polarity: N Channel; Ciss Typ (pF): 130; Coss Typ (pF): 25; Crss Typ (pF): 4; ID Max (A): 1.5; V(BR)DSS Min (V): 600; VGS Max (V): 30; VGS(th) Max (V): 5; PackageVersion: Rev. O, 01/2012; PackageReference: IPAK-3-369AJ; PackageDescription: 3-Pin Flange Mount, Vertical Straight Lead, Body 6.5 x 5.5 mm, Pitch 2.3 mm; Supplier 1: Digi-Key; Supplier Part Number 1: SFT1440-E-ND; Supplier 2: Mouser; Supplier Part Number 2: 863-SFT1440-E; Configuration: Single; Package Type: DPAK / TP-FA; Packing: Bulk Bag; RoHS: Pb-Free; Mounting Technology: Through Hole; ComponentLink1Description: Manufacturer URL; ComponentLink1URL: http://www.onsemi.com/; ComponentLink2Description: Datasheet; ComponentLink2URL: http://www.onsemi.cn/pub_link/Collateral/SFT1440-D.PDF; ComponentLink3Description: Package Specification; ComponentLink3URL: http://www.onsemi.cn/pub_link/Collateral/369AJ.PDF
footprint ONSC-IPAK-3-369AJ (FM, 3-Leads, Body 6.7x2.5mm, Pitch 2.3mm)
pins: 1 G, 2 D, 3 S

## SFT1440-H
designator Q?
N-Channel Power MOSFET, 600 V, 1.5 A, 8.1 Ohm, Single, 3-Pin IPAK, Pb-Free, Bulk Bag; Manufacturer: On Semiconductor; PartNumber: SFT1440-H; Channel Polarity: N Channel; Ciss Typ (pF): 130; Coss Typ (pF): 25; Crss Typ (pF): 4; ID Max (A): 1.5; V(BR)DSS Min (V): 600; VGS Max (V): 30; VGS(th) Max (V): 5; PackageVersion: Rev. O, 01/2012; PackageReference: IPAK-3-369AJ; PackageDescription: 3-Pin Flange Mount, Vertical Straight Lead, Body 6.5 x 5.5 mm, Pitch 2.3 mm; Configuration: Single; Package Type: DPAK / TP-FA; Packing: Bulk Bag; RoHS: Pb-Free; Mounting Technology: Through Hole; ComponentLink1Description: Manufacturer URL; ComponentLink1URL: http://www.onsemi.com/; ComponentLink2Description: Datasheet; ComponentLink2URL: http://www.onsemi.cn/pub_link/Collateral/SFT1440-D.PDF; ComponentLink3Description: Package Specification; ComponentLink3URL: http://www.onsemi.cn/pub_link/Collateral/369AJ.PDF
footprint ONSC-IPAK-3-369AJ (FM, 3-Leads, Body 6.7x2.5mm, Pitch 2.3mm)
pins: 1 G, 2 D, 3 S